# EAGLE library part HEADER_28P (library Public)
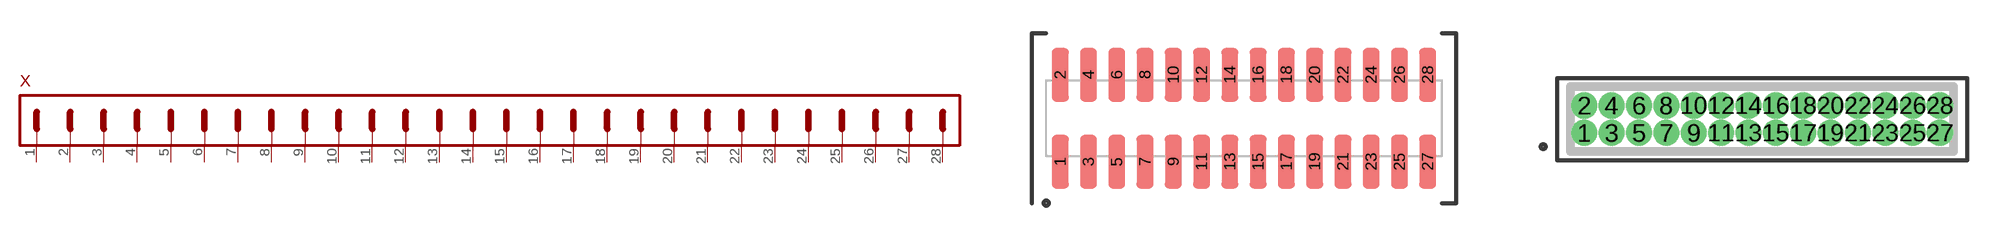
[diagram p134: symbol with the pads of HEADER_28P_2ROW_RM1.27MM_SMD_WUERTH_62132821021; footprints HEADER_28P_2ROW_RM1.27MM_SMD_WUERTH_62132821021, HEADER_28P_2ROW_RM1.27MM_THT_WUERTH_62202821821]

Designator prefix X

## HEADER_28P(RM1.27MM_2ROW_SMD)  [HEADER_28P_2ROW_RM1.27MM_SMD_WUERTH_62132821021]
1  PIN1
2  PIN2
3  PIN3
4  PIN4
5  PIN5
6  PIN6
7  PIN7
8  PIN8
9  PIN9
10  PIN10
11  PIN11
12  PIN12
13  PIN13
14  PIN14
15  PIN15
16  PIN16
17  PIN17
18  PIN18
19  PIN19
20  PIN20
21  PIN21
22  PIN22
23  PIN23
24  PIN24
25  PIN25
26  PIN26
27  PIN27
28  PIN28

## HEADER_28P(RM1.27MM_2ROW_THT)  [HEADER_28P_2ROW_RM1.27MM_THT_WUERTH_62202821821]
Pads as for HEADER_28P_2ROW_RM1.27MM_SMD_WUERTH_62132821021

## Footprint HEADER_28P_2ROW_RM1.27MM_SMD_WUERTH_62132821021 (pad centres in mm)
smd 0.75 x 2.4: 1 -8.255,-1.95; 2 -8.255,1.95; 3 -6.985,-1.95; 4 -6.985,1.95; 5 -5.715,-1.95; 6 -5.715,1.95; 7 -4.445,-1.95; 8 -4.445,1.95; 9 -3.175,-1.95; 10 -3.175,1.95; 11 -1.905,-1.95; 12 -1.905,1.95; 13 -0.635,-1.95; 14 -0.635,1.95; 15 0.635,-1.95; 16 0.635,1.95; 17 1.905,-1.95; 18 1.905,1.95; 19 3.175,-1.95; 20 3.175,1.95; 21 4.445,-1.95; 22 4.445,1.95; 23 5.715,-1.95; 24 5.715,1.95; 25 6.985,-1.95; 26 6.985,1.95; 27 8.255,-1.95; 28 8.255,1.95

## Footprint HEADER_28P_2ROW_RM1.27MM_THT_WUERTH_62202821821 (pad centres in mm)
drill 0.7 pad 1: 1 -8.255,-0.635; 2 -8.255,0.635; 3 -6.985,-0.635; 4 -6.985,0.635; 5 -5.715,-0.635; 6 -5.715,0.635; 7 -4.445,-0.635; 8 -4.445,0.635; 9 -3.175,-0.635; 10 -3.175,0.635; 11 -1.905,-0.635; 12 -1.905,0.635; 13 -0.635,-0.635; 14 -0.635,0.635; 15 0.635,-0.635; 16 0.635,0.635; 17 1.905,-0.635; 18 1.905,0.635; 19 3.175,-0.635; 20 3.175,0.635; 21 4.445,-0.635; 22 4.445,0.635; 23 5.715,-0.635; 24 5.715,0.635; 25 6.985,-0.635; 26 6.985,0.635; 27 8.255,-0.635; 28 8.255,0.635